# EAGLE library part M09 (library pimoroni)
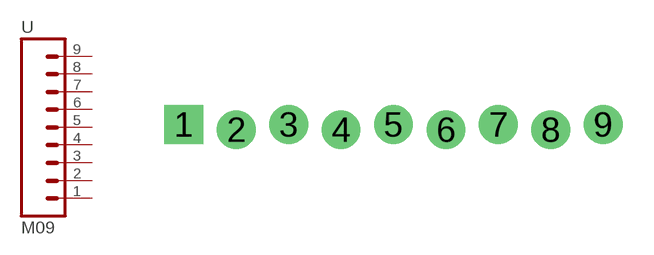
[diagram p55: symbol with the pads of 1X09_LOCK; footprint 1X09_LOCK]

Designator prefix -

## M09  [1X09_LOCK]
1  1  pas
2  2  pas
3  3  pas
4  4  pas
5  5  pas
6  6  pas
7  7  pas
8  8  pas
9  9  pas

## Footprint 1X09_LOCK (pad centres in mm)
drill 1.016 pad 1.88 square: 1 -10.16,0.127
drill 1.016 pad 1.88: 2 -7.62,-0.127; 3 -5.08,0.127; 4 -2.54,-0.127; 5 0,0.127; 6 2.54,-0.127; 7 5.08,0.127; 8 7.62,-0.127; 9 10.16,0.127